# Altium footprint library SENTHER_540B.PcbLib: 1 footprints
Each footprint in its own frame and in the unit in brackets; x right, y up, seen from the top. Pads: shape width x height; smd on the part's side, far side on the other; paste and mask are expansions set on the pad; w line width, h text height; cw(c..) or ccw(c..) is an arc to the next point about the centre after c.
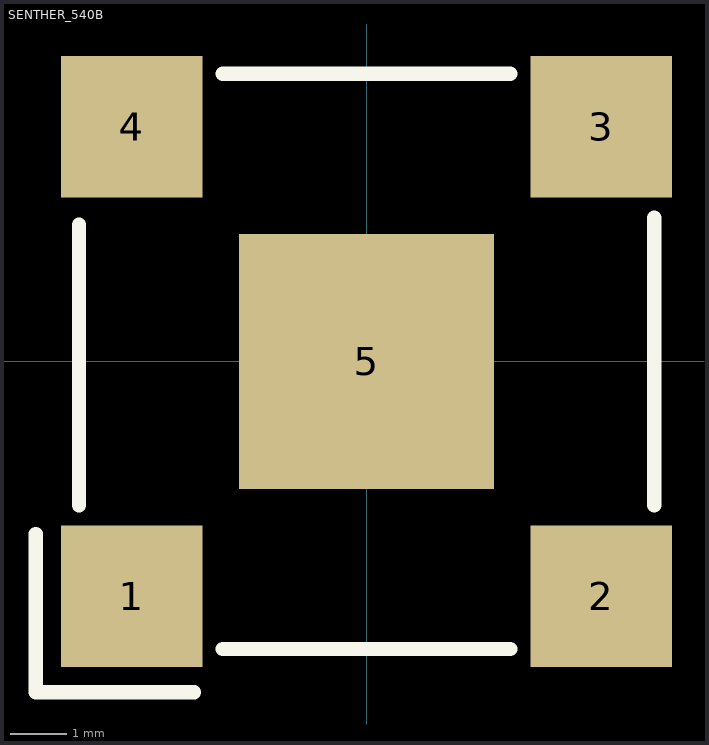
[diagram p0: the footprint, top view; thin cyan lines are the x and y axes]

## SENTHER_540B [mm] "Surface-Mount Shock Sensor"
height 5.4
pads (5):
  rect 2.5x2.5 all layers, no hole: 1(-4.15,-4.15) 2(4.15,-4.15) 3(4.15,4.15) 4(-4.15,4.15)
  rect 4.5x4.5 all layers, no hole: 5(0,0)
Top Overlay:
  lines w0.254: -5.842,-3.048 -5.842,-5.842 -3.048,-5.842 ; -5.08,-2.54 -5.08,2.413 ; -2.54,-5.08 2.54,-5.08 ; -2.54,5.08 2.54,5.08 ; 5.08,-2.54 5.08,2.54